# Altium footprint library BLDC_V3_2016_6_2.PcbLib: 15 footprints
Each footprint in its own frame and in the unit in brackets; x right, y up, seen from the top. Pads: shape width x height; smd on the part's side, far side on the other; paste and mask are expansions set on the pad; w line width, h text height; cw(c..) or ccw(c..) is an arc to the next point about the centre after c.
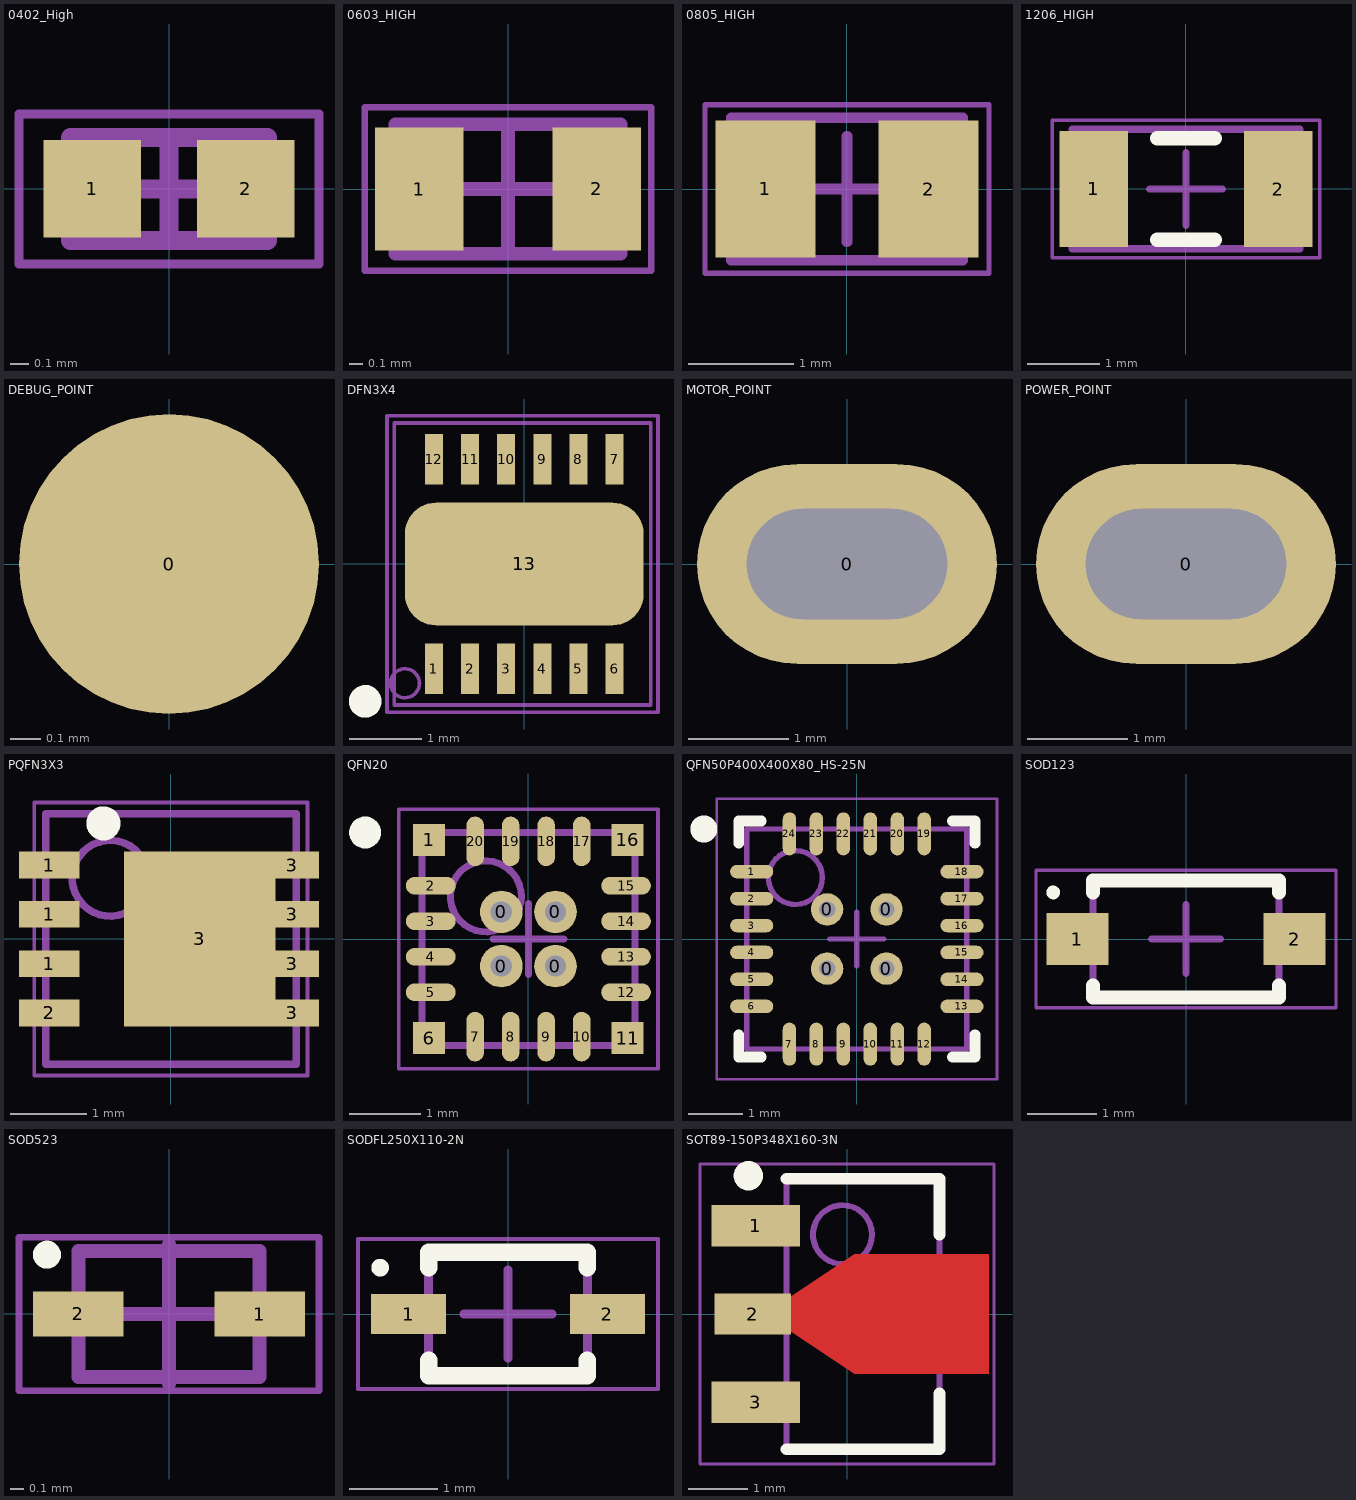
[diagram p0: the footprints below, top view; thin cyan lines are the x and y axes]

## 0402_High [mm] "Chip Capacitor, 2-Leads, Body 1.00x0.50mm, IPC High Density"
height 0.4
pads (2):
  rect 0.52x0.52 smd mask+0: 1(-0.41,0) 2(0.41,0)
Mechanical 13:
  lines w0.1: -0.525,-0.275 -0.525,0.275 0.525,0.275 0.525,-0.275 -0.525,-0.275
Mechanical 15:
  lines w0.05: -0.8,-0.4 -0.8,0.4 0.8,0.4 0.8,-0.4 -0.8,-0.4
  lines w0.1: -0.275,0 0.275,0 ; 0,-0.275 0,0.275
3D body: height 0.4, standoff 0, extent -0.275,-0.275 0.275,0.275
3D body: height 0.4, standoff 0, extent -0.525,-0.275 -0.275,0.275
3D body: height 0.4, standoff 0, extent 0.275,-0.275 0.525,0.275

## 0603_HIGH [mm] "Chip Capacitor, 2-Leads, Body 1.60x0.85mm, IPC High Density"
height 0.45
pads (2):
  rect 0.65x0.9 smd mask+0: 1(-0.65,0) 2(0.65,0)
Mechanical 13:
  lines w0.1: -0.825,-0.475 -0.825,0.475 0.825,0.475 0.825,-0.475 -0.825,-0.475
Mechanical 15:
  lines w0.05: -1.05,-0.6 -1.05,0.6 1.05,0.6 1.05,-0.6 -1.05,-0.6
  lines w0.1: -0.475,0 0.475,0 ; 0,-0.475 0,0.475
3D body: height 0.45, standoff 0, extent -0.525,-0.475 0.525,0.475
3D body: height 0.45, standoff 0, extent -0.825,-0.475 -0.525,0.475
3D body: height 0.45, standoff 0, extent 0.525,-0.475 0.825,0.475

## 0805_HIGH [mm] "Chip Capacitor, 2-Leads, Body 2.00x1.25mm, IPC High Density"
height 0.7
pads (2):
  rect 0.95x1.3 smd mask+0: 1(-0.775,0) 2(0.775,0)
Mechanical 13:
  lines w0.1: -1.1,-0.675 1.1,-0.675 1.1,0.675 -1.1,0.675 -1.1,-0.675
Mechanical 15:
  lines w0.05: -1.35,-0.8 1.35,-0.8 1.35,0.8 -1.35,0.8 -1.35,-0.8
  lines w0.1: -0.5,0 0.5,0 ; 0,-0.5 0,0.5
3D body: height 0.7, standoff 0, extent 0.7,-0.675 1.1,0.675
3D body: height 0.7, standoff 0, extent -1.1,-0.675 -0.7,0.675
3D body: height 0.7, standoff 0, extent -0.7,-0.675 0.7,0.675

## 1206_HIGH [mm] "Chip Capacitor, 2-Leads, Body 3.07x1.55mm, IPC High Density"
height 0.7
pads (2):
  rect 0.95x1.6 smd mask+0: 1(-1.275,0) 2(1.275,0)
Top Overlay:
  lines w0.2: -0.4,-0.7 0.4,-0.7 ; -0.4,0.7 0.4,0.7
Mechanical 13:
  lines w0.1: -1.575,-0.825 1.575,-0.825 1.575,0.825 -1.575,0.825 -1.575,-0.825
Mechanical 15:
  lines w0.05: -1.85,-0.95 1.85,-0.95 1.85,0.95 -1.85,0.95 -1.85,-0.95
  lines w0.1: -0.5,0 0.5,0 ; 0,-0.5 0,0.5
3D body: height 0.7, standoff 0, extent 1.075,-0.825 1.575,0.825
3D body: height 0.7, standoff 0, extent -1.575,-0.825 -1.075,0.825
3D body: height 0.7, standoff 0, extent -1.075,-0.825 1.075,0.825

## DEBUG_POINT [mm]
height 0.45
pads (1):
  round 1 smd mask+0: 0(0,0)

## DFN3X4 [mm]
height 0.75
pads (13):
  rect 0.25x0.7 smd: 1(-1.25,-1.45) 2(-0.75,-1.45) 3(-0.25,-1.45) 4(0.25,-1.45) 5(0.75,-1.45) 6(1.25,-1.45) 7(1.25,1.45) 8(0.75,1.45) 9(0.25,1.45) 10(-0.25,1.45) 11(-0.75,1.45) 12(-1.25,1.45)
  rrect50% 3.3x1.7 smd: 13(0,0)
Top Overlay:
  circle w0.25: c-2.2,-1.9 r0.1
Mechanical 13:
  lines w0.051: -1.8,-1.95 1.75,-1.95 1.75,1.95 -1.8,1.95 -1.8,-1.95
Mechanical 15:
  circle w0.05: c-1.65,-1.65 r0.2
  lines w0.051: -1.9,-2.05 -1.9,2.05 1.85,2.05 1.85,-2.05 -1.9,-2.05

## MOTOR_POINT [mm] "Motor output pins"
height 0.45
pads (1):
  oval 3x2 hole 1.1 slot 2 at 0 deg mask+0.1: 0(0,0)

## POWER_POINT [mm] "power in  pins"
height 0.45
pads (1):
  oval 3x2 hole 1.1 slot 2 at 0 deg mask+0.1: 0(0,0)

## PQFN3X3 [mm] "PQFN, 16-Leads, Body 3.30x3.30mm, Pitch 0.65mm, Thermal Pad 2.37x2.37mm, IPC High Density"
height 1.05
pads (9):
  rect 0.8x0.35 smd mask+0: 1(-1.602,0.325) 1(-1.602,-0.325) 1(-1.602,0.975) 2(-1.602,-0.975)
  rect 2x2.3 smd paste+0 mask+0: 3(0.381,0)
  rect 0.7x0.35 smd mask+0: 3(1.602,0.325) 3(1.602,-0.975) 3(1.602,0.975) 3(1.602,-0.325)
Top Overlay:
  circle w0.25: c-0.889,1.524 r0.1
Mechanical 13:
  circle w0.1: c-0.8,0.8 r0.5
  lines w0.1: -1.65,-1.65 -1.65,1.65 1.65,1.65 1.65,-1.65 -1.65,-1.65
Mechanical 15:
  lines w0.05: -1.8,-1.8 1.8,-1.8 1.8,1.8 -1.8,1.8 -1.8,-1.8
  lines w0.1: -0.5,0 0.5,0 ; 0,-0.5 0,0.5
3D body: height 1.05, standoff 0.12, extent -1.7,-1.7 1.7,1.7

## QFN20 [mm] "For SiliconLib C8051_F850"
height 0.8
pads (24):
  round 0.6 hole 0.3: 0(-0.381,0.381) 0(-0.381,-0.381) 0(0.381,0.381) 0(0.381,-0.381)
  rect 0.45x0.45 smd: 1(-1.397,1.397) 6(-1.397,-1.397) 11(1.397,-1.397) 16(1.397,1.397)
  oval 0.7x0.25 smd: 2(-1.375,0.75) 3(-1.375,0.25) 4(-1.375,-0.25) 5(-1.375,-0.75) 12(1.375,-0.75) 13(1.375,-0.25) 14(1.375,0.25) 15(1.375,0.75)
  oval 0.25x0.7 smd: 7(-0.75,-1.375) 8(-0.25,-1.375) 9(0.25,-1.375) 10(0.75,-1.375) 17(0.75,1.375) 18(0.25,1.375) 19(-0.25,1.375) 20(-0.75,1.375)
Top Overlay:
  circle w0.25: c-2.3,1.5 r0.1
Mechanical 13:
  circle w0.1: c-0.6,0.6 r0.5
  lines w0.1: -1.5,-1.5 -1.5,1.5 1.5,1.5 1.5,-1.5 -1.5,-1.5
Mechanical 15:
  lines w0.05: -1.825,-1.825 -1.825,1.825 1.825,1.825 1.825,-1.825 -1.825,-1.825
  lines w0.1: -0.5,0 0.5,0 ; 0,-0.5 0,0.5
3D body: height 0.8, standoff 0, extent -1.5,-1.5 1.5,1.5

## QFN50P400X400X80_HS-25N [mm] "QFN, 24-Leads, Body 4.00x4.00mm, Pitch 0.50mm, Thermal Pad 2.70x2.70mm, IPC Medium Density"
height 0.8
pads (28):
  round 0.6 hole 0.3: 0(-0.55,0.55) 0(-0.55,-0.55) 0(0.55,0.55) 0(0.55,-0.55)
  oval 0.8x0.25 smd: 1(-1.95,1.25) 2(-1.95,0.75) 3(-1.95,0.25) 4(-1.95,-0.25) 5(-1.95,-0.75) 6(-1.95,-1.25) 13(1.95,-1.25) 14(1.95,-0.75) 15(1.95,-0.25) 16(1.95,0.25) 17(1.95,0.75) 18(1.95,1.25)
  oval 0.25x0.8 smd: 7(-1.25,-1.95) 8(-0.75,-1.95) 9(-0.25,-1.95) 10(0.25,-1.95) 11(0.75,-1.95) 12(1.25,-1.95) 19(1.25,1.95) 20(0.75,1.95) 21(0.25,1.95) 22(-0.25,1.95) 23(-0.75,1.95) 24(-1.25,1.95)
Top Overlay:
  circle w0.25: c-2.84,2.04 r0.125
  lines w0.2: -2.19,-1.775 -2.19,-2.19 -1.775,-2.19 ; -2.19,1.775 -2.19,2.19 -1.775,2.19 ; 1.775,-2.19 2.19,-2.19 2.19,-1.775 ; 1.775,2.19 2.19,2.19 2.19,1.775
Mechanical 13:
  circle w0.1: c-1.14,1.14 r0.5
  lines w0.1: -2.04,-2.04 2.04,-2.04 2.04,2.04 -2.04,2.04 -2.04,-2.04
Mechanical 15:
  lines w0.05: -2.6,-2.6 2.6,-2.6 2.6,2.6 -2.6,2.6 -2.6,-2.6
  lines w0.1: -0.5,0 0.5,0 ; 0,-0.5 0,0.5
3D body: height 0.8, standoff 0, extent -2.04,-2.04 2.04,2.04

## SOD123 [mm] "SODFL, 2-Leads, Body 1.60x3.50mm, IPC Medium Density"
height 1.2
pads (2):
  rect 0.9x0.75 smd: 1(-1.575,0) 2(1.575,0)
Top Overlay:
  circle w0.1: c-1.925,0.675 r0.05
  lines w0.2: -1.35,-0.675 -1.35,-0.85 1.35,-0.85 1.35,-0.675 ; -1.35,0.675 -1.35,0.85 1.35,0.85 1.35,0.675
Mechanical 13:
  lines w0.1: -1.35,-0.85 -1.35,0.85 1.35,0.85 1.35,-0.85 -1.35,-0.85
Mechanical 15:
  lines w0.05: -2.175,-1 -2.175,1 2.175,1 2.175,-1 -2.175,-1
  lines w0.1: -0.5,0 0.5,0 ; 0,-0.5 0,0.5
3D body: height 1.2, standoff 0, extent -1.35,-0.85 1.35,0.85

## SOD523 [mm] "SODFL, 2-Leads, Body 0.80x1.60mm, IPC High Density"
height 0.8
pads (2):
  rect 0.65x0.32 smd mask+0: 1(0.65,0) 2(-0.65,0)
Top Overlay:
  circle w0.1: c-0.875,0.425 r0.05
Mechanical 13:
  lines w0.1: -0.65,-0.45 0.65,-0.45 0.65,0.45 -0.65,0.45 -0.65,-0.45
Mechanical 15:
  lines w0.05: -1.075,-0.55 1.075,-0.55 1.075,0.55 -1.075,0.55 -1.075,-0.55
  lines w0.1: -0.5,0 0.5,0 ; 0,-0.5 0,0.5
3D body: height 0.8, standoff 0, extent -0.65,-0.45 0.65,0.45

## SODFL250X110-2N [mm] "SODFL, 2-Leads, Body 1.25x2.50mm, IPC Medium Density"
height 1.1
pads (2):
  rect 0.85x0.45 smd: 1(-1.125,0) 2(1.125,0)
Top Overlay:
  circle w0.1: c-1.45,0.525 r0.05
  lines w0.2: -0.9,-0.525 -0.9,-0.7 0.9,-0.7 0.9,-0.525 ; -0.9,0.525 -0.9,0.7 0.9,0.7 0.9,0.525
Mechanical 13:
  lines w0.1: -0.9,-0.675 0.9,-0.675 0.9,0.675 -0.9,0.675 -0.9,-0.675
Mechanical 15:
  lines w0.05: -1.7,-0.85 1.7,-0.85 1.7,0.85 -1.7,0.85 -1.7,-0.85
  lines w0.1: -0.5,0 0.5,0 ; 0,-0.5 0,0.5
3D body: height 1.1, standoff 0, extent -0.9,-0.675 0.9,0.675

## SOT89-150P348X160-3N [mm] "SOT89, 3-Leads, Body 4.50x2.45mm, Pitch 1.50mm, Lead Span 3.5mm, IPC Medium Density"
height 1.6
pads (3):
  rect 1.5x0.7 smd: 1(-1.55,1.5) 3(-1.55,-1.5)
  rect 1.3x0.7 smd: 2(-1.6,0)
Top Layer:
  region: -0.95,0.3 0.127,1.016 2.413,1.016 2.413,0.254 2.413,-0.254 2.413,-1.016 0.127,-1.016 -0.95,-0.3
Top Overlay:
  circle w0.25: c-1.677,2.35 r0.125
  lines w0.2: -1.028,-2.3 1.572,-2.3 1.572,-1.35 ; -1.028,2.3 1.572,2.3 1.572,1.35
Mechanical 13:
  circle w0.1: c-0.078,1.35 r0.5
  lines w0.1: -1.028,-2.3 -1.028,2.3 1.572,2.3 1.572,-2.3 -1.028,-2.3
Mechanical 15:
  lines w0.05: -2.5,-2.55 -2.5,2.55 2.5,2.55 2.5,-2.55 -2.5,-2.55
  lines w0.1: -0.227,0 0.773,0 ; 0.272,-0.5 0.273,0.5
3D body: height 1.6, standoff 0, extent -1.028,-2.3 1.572,2.3